# Altium integrated library MainLib.IntLib: 20 symbols
Pins are listed as number, name and electrical type; pins without a type are passive.

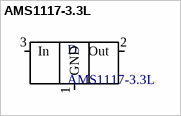
[diagram p0: symbol AMS1117-3.3L]

## AMS1117-3.3L
designator D
footprint SOT223-4N (SOT223, 4-Leads, Body 6,50x7,00mm (avg), Pitch 2,30mm, IPC Medium Density)
pins: 1 GND, 2 Out, 3 In


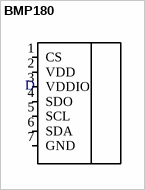
[diagram p1: symbol BMP180]

## BMP180
designator D  (value not drawn)
footprint BMP180 (CQFP, 4-Leads, Body 33,53x33,53mm, Pitch 1,50mm, IPC Medium Density)
pins: 1 CS, 2 VDD, 3 VDDIO, 4 SDO, 5 SCL, 6 SDA, 7 GND


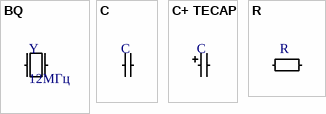
[diagram p2: symbols BQ to R]

## BQ
designator Y, comment 12МГц
footprint HC-49SM (Chip BQ)
pins: 1, 2

## C
designator C  (value not drawn)
footprint 0603 (Chip Resistor, 2-Leads, Body 1,63x0,93mm, IPC Medium Density)
pins: 1, 2

## C+ TECAP
designator C  (value not drawn)
TECAP EIA 6032–28
footprint EIA_6032–28 (Chip Capacitor, 2-Leads, Body 6,00x3,00mm, IPC Medium Density)
pins: 1, 2

## R
designator R  (value not drawn)
footprint 0603 (Chip Resistor, 2-Leads, Body 1,63x0,93mm, IPC Medium Density)
pins: 1, 2


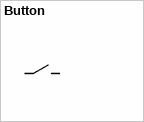
[diagram p3: symbol Button]

## Button
designator SW, comment 0  (value not drawn)
footprint 0603 (Chip Resistor, 2-Leads, Body 1,63x0,93mm, IPC Medium Density)
pins: 1, 2


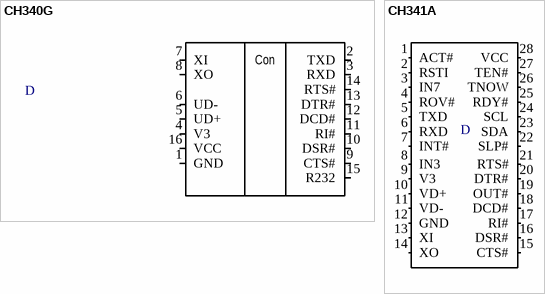
[diagram p4: symbols CH340G to CH341A]

## CH340G
designator D  (value not drawn)
footprint SOP16
pins: 1 GND, 2 TXD, 3 RXD, 4 V3, 5 UD+, 6 UD-, 7 XI, 8 XO, 9 CTS#, 10 DSR#, 11 RI#, 12 DCD#, 13 DTR#, 14 RTS#, 15 R232, 16 VCC
text: Con

## CH341A
designator D  (value not drawn)
footprint SOP127-28N (SOP, 28-Leads, Body 17,73x7,50mm, Pitch 1,27mm, IPC Medium Density)
pins: 1 ACT#, 2 RSTI, 3 IN7, 4 ROV#, 5 TXD, 6 RXD, 7 INT#, 8 IN3, 9 V3, 10 VD+, 11 VD-, 12 GND, 13 XI, 14 XO, 15 CTS#, 16 DSR#, 17 RI#, 18 DCD#, 19 OUT#, 20 DTR#, 21 RTS#, 22 SLP#, 23 SDA, 24 SCL, 25 RDY#, 26 TNOW, 27 TEN#, 28 VCC


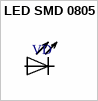
[diagram p5: symbol LED SMD 0805]

## LED SMD 0805
designator VD  (value not drawn)
footprint Led Diode 0805 (Chip Diode, 2-Leads, Body 2,05x1,25mm, IPC Medium Density)
pins: A, K


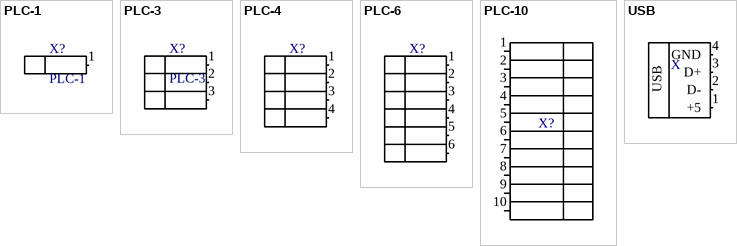
[diagram p6: symbols PLC-1 to USB]

## PLC-1
designator X?
footprint PLC-1
pins: 1

## PLC-3
designator X?
footprint PLC-3
pins: 1, 2, 3

## PLC-4
designator X?  (value not drawn)
footprint PLC-4
pins: 1, 2, 3, 4

## PLC-6
designator X?  (value not drawn)
footprint PLC-6
pins: 1, 2, 3, 4, 5, 6

## PLC-10
designator X?  (value not drawn)
footprint PLC-10
pins: 1, 2, 3, 4, 5, 6, 7, 8, 9, 10

## USB
designator X  (value not drawn)
footprint USB-ASM (DS1098-B)
pins: 1 +5, 2 D-, 3 D+, 4 GND


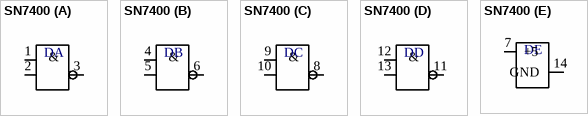
[diagram p7: symbol SN7400]

## SN7400
designator D  (value not drawn)
footprint SOP127-14N (SOP, 14-Leads, Body 8,65x3,90mm, Pitch 1,27mm, IPC Medium Density)
part A pins: 1, 2, 3
part B pins: 4, 5, 6
part C pins: 8, 9, 10
part D pins: 11, 12, 13
part E pins: 7 +5, 14 GND
part A text: &
part B text: &
part C text: &
part D text: &


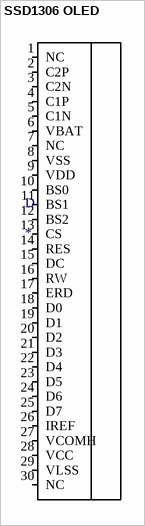
[diagram p8: symbol SSD1306 OLED]

## SSD1306 OLED
designator D
footprint SSD1306 (Chip Array, 30 pin)
pins: 1 NC, 2 C2P, 3 C2N, 4 C1P, 5 C1N, 6 VBAT, 7 NC, 8 VSS, 9 VDD, 10 BS0, 11 BS1, 12 BS2, 13 CS, 14 RES, 15 DC, 16 RW, 17 ERD, 18 D0, 19 D1, 20 D2, 21 D3, 22 D4, 23 D5, 24 D6, 25 D7, 26 IREF, 27 VCOMH, 28 VCC, 29 VLSS, 30 NC


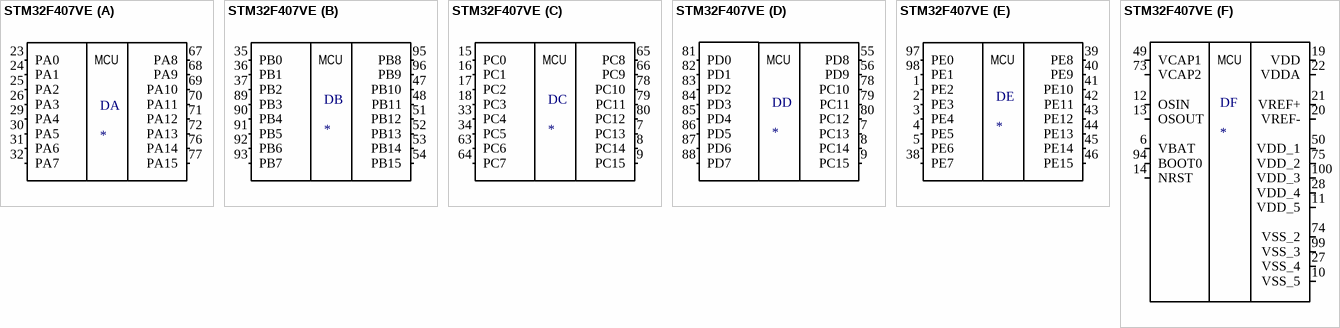
[diagram p9: symbol STM32F407VE]

## STM32F407VE
designator D
ARM3
footprint LQFP100 (SQFP, 100-Leads, Body 14,00x14,00mm, Pitch 0,50mm, IPC Medium Density)
part A pins: 23 PA0, 24 PA1, 25 PA2, 26 PA3, 29 PA4, 30 PA5, 31 PA6, 32 PA7, 67 PA8, 68 PA9, 69 PA10, 70 PA11, 71 PA12, 72 PA13, 76 PA14, 77 PA15
part B pins: 35 PB0, 36 PB1, 37 PB2, 47 PB10, 48 PB11, 51 PB12, 52 PB13, 53 PB14, 54 PB15, 89 PB3, 90 PB4, 91 PB5, 92 PB6, 93 PB7, 95 PB8, 96 PB9
part C pins: 7 PC13, 8 PC14, 9 PC15, 15 PC0, 16 PC1, 17 PC2, 18 PC3, 33 PC4, 34 PC5, 63 PC6, 64 PC7, 65 PC8, 66 PC9, 78 PC10, 79 PC11, 80 PC12
part D pins: 7 PC13, 8 PC14, 9 PC15, 55 PD8, 56 PD9, 78 PC10, 79 PC11, 80 PC12, 81 PD0, 82 PD1, 83 PD2, 84 PD3, 85 PD4, 86 PD5, 87 PD6, 88 PD7
part E pins: 1 PE2, 2 PE3, 3 PE4, 4 PE5, 5 PE6, 38 PE7, 39 PE8, 40 PE9, 41 PE10, 42 PE11, 43 PE12, 44 PE13, 45 PE14, 46 PE15, 97 PE0, 98 PE1
part F pins: 6 VBAT, 10 VSS_5, 11 VDD_5, 12 OSIN, 13 OSOUT, 14 NRST, 19 VDD, 20 VREF-, 21 VREF+, 22 VDDA, 27 VSS_4, 28 VDD_4, 49 VCAP1, 50 VDD_1, 73 VCAP2, 74 VSS_2, 75 VDD_2, 94 BOOT0, 99 VSS_3, 100 VDD_3
part A text: MCU
part B text: MCU
part C text: MCU
part D text: MCU
part E text: MCU
part F text: MCU


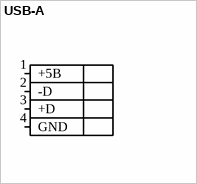
[diagram p10: symbol USB-A]

## USB-A
designator X, comment 0
footprint USB-ASM (DS1098-B)
pins: 1 +5В, 2 -D, 3 +D, 4 GND